# Altium footprint library PcbLib.PcbLib: 27 footprints (part 1 of 2)
Each footprint in its own frame and in the unit in brackets; x right, y up, seen from the top. Pads: shape width x height; smd on the part's side, far side on the other; paste and mask are expansions set on the pad; w line width, h text height; cw(c..) or ccw(c..) is an arc to the next point about the centre after c.
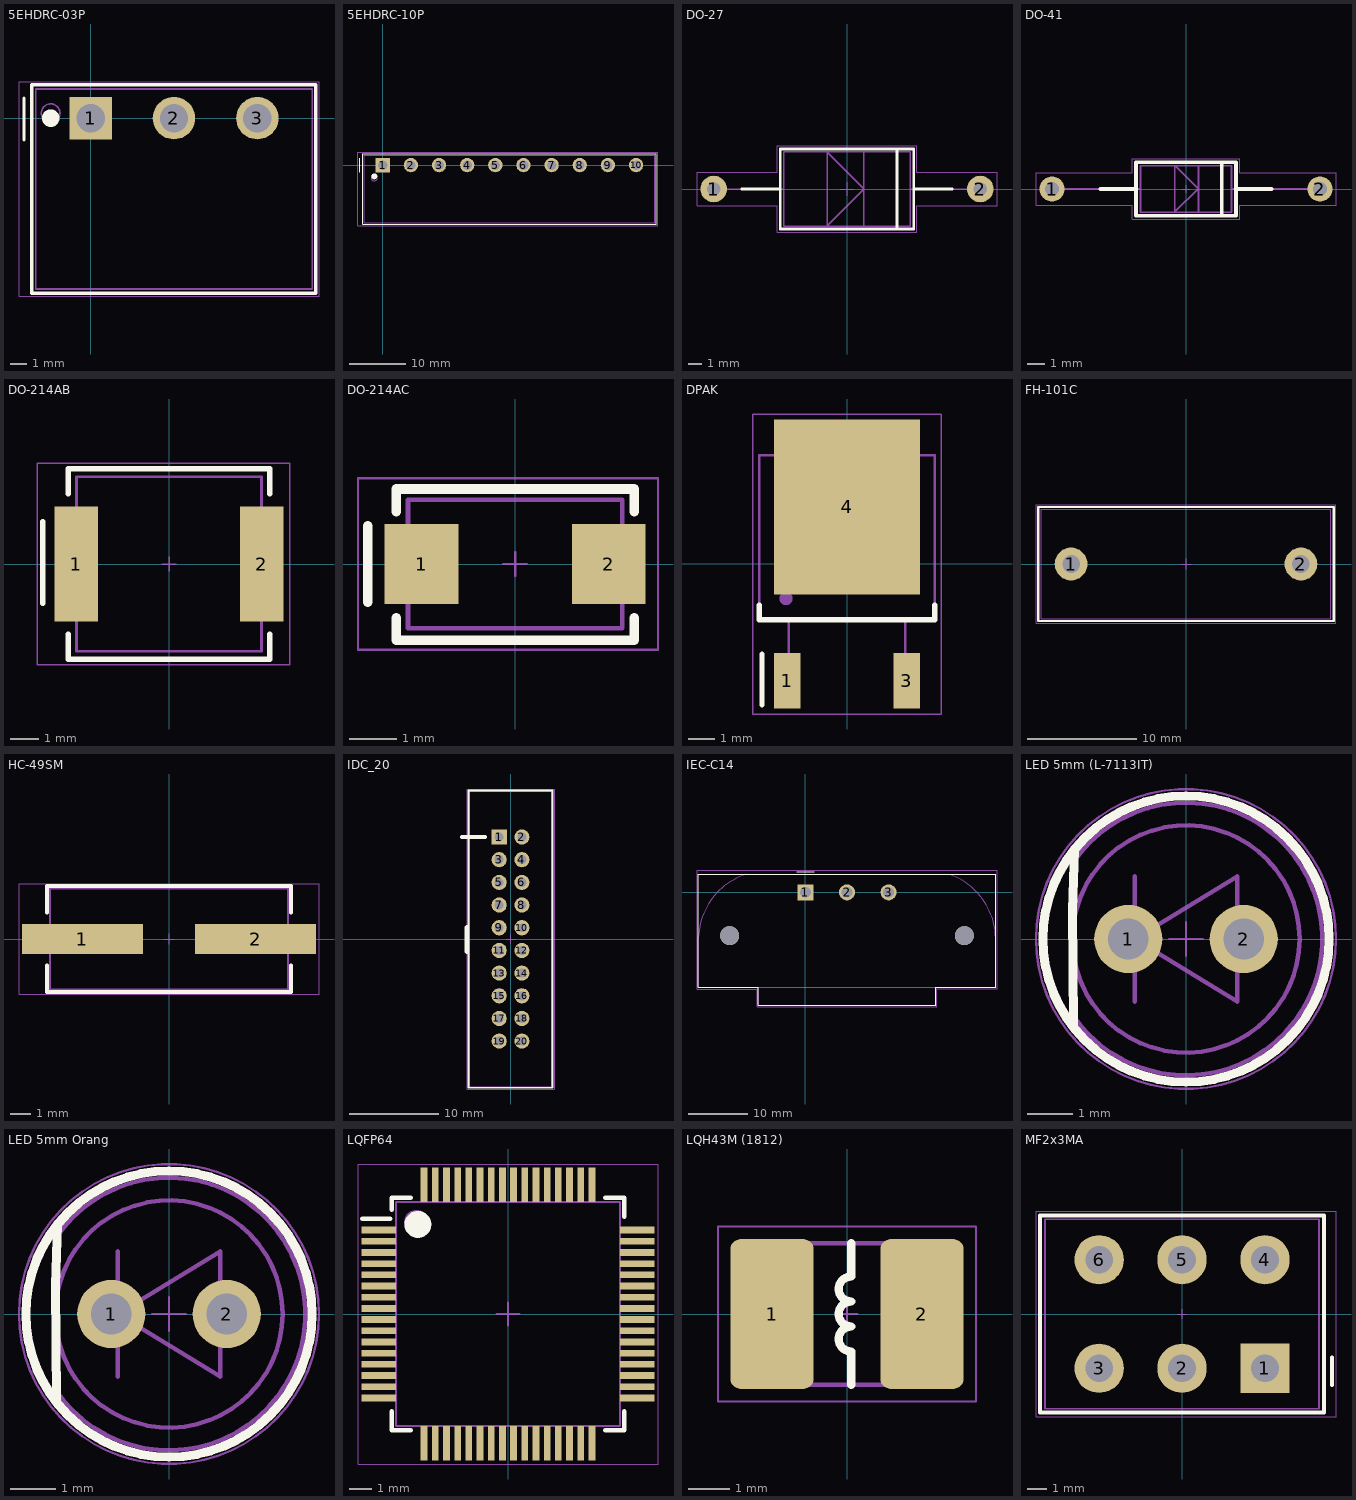
[diagram p0: the footprints below, top view; thin cyan lines are the x and y axes]

## 5EHDRC-03P [mm] "5EHDRC-03P (1x3) 2.54pit 1mm hole [16.6x12.00]"
pads (3):
  rect 2.55x2.55 hole 1.7 unplated: 1(0,0)
  round 2.55 hole 1.7 unplated: 2(5,0) 3(10,0)
Top Overlay:
  circle w0.55: c-2.4,0 r0.25
  lines w0.2: -4,-1.3 -4,1.2 ; -3.525,-10.5 13.5,-10.5 13.5,2 -3.525,2 -3.525,-10.5
Mechanical 13:
  circle w0.1: c-2.4,0.3 r0.559
  lines w0.1: -3.3,-10.25 -3.3,1.75 13.3,1.75 13.3,-10.25 -3.3,-10.25
  text ".Designator" at 3.5,-2.593 h1
Mechanical 15:
  lines w0.05: 4.5,0 5.5,0 ; 5,-0.5 5,0.5 ; -4.3,-10.7 13.7,-10.7 13.7,2.2 -4.3,2.2 -4.3,-10.7
3D body: height 12.47, standoff 0, extent -3.3,-10.25 13.3,1.75

## 5EHDRC-10P [mm] "5EHDRC-10P (1x10) 2.54pit 1mm hole [51,9x12.00]"
pads (10):
  rect 2.55x2.55 hole 1.7 unplated: 1(0,0)
  round 2.55 hole 1.7 unplated: 2(5,0) 3(10,0) 4(15,0) 5(20,0) 6(25,0) 7(30,0) 8(35,0) 9(40,0) 10(45,0)
Top Overlay:
  circle w0.55: c-1.5,-2 r0.25
  lines w0.2: -4.1,-1.3 -4.1,1.2 ; -3.6,-10.5 48.6,-10.5 48.6,2 -3.6,2 -3.6,-10.5
Mechanical 13:
  circle w0.1: c-1.5,-2.25 r0.559
  lines w0.1: -3.3,-10.25 -3.3,1.75 48.3,1.75 48.3,-10.25 -3.3,-10.25
  text ".Designator" at 21,-3.343 h1
Mechanical 15:
  lines w0.05: -4.4,-10.75 -4.4,2.25 48.9,2.25 48.9,-10.75 -4.4,-10.75
3D body: height 12.47, standoff 0, extent -3.3,-10.25 48.3,1.75

## DO-27 [mm] "DO-27 (DO-201AD)"
pads (2):
  round 2 hole 1: 1(-10,0) 2(10,0)
Top Overlay:
  lines w0.2: -7.9,0 -5,0 ; 3.75,-3 3.75,3 ; 5,0 7.9,0 ; -5,-3 -5,3 5,3 5,-3 -5,-3
Mechanical 12:
  text "140.02.0205.00.00" at -2.251,2 h0.8
Mechanical 13:
  lines w0.1: -10,0 -4.75,0 ; 1.25,-2.75 1.25,2.75 ; 4.75,0 10,0 ; -4.75,-2.8 4.75,-2.8 4.75,2.8 -4.75,2.8 -4.75,-2.8 ; -1.5,-2.75 -1.5,2.75 1.2,0.05 1.2,0 1.2,-0.05 -1.5,-2.75
  text ".Designator" at -1.75,-2.093 h1
Mechanical 15:
  lines w0.05: -0.5,0 0.5,0 ; 0,-0.5 0,0.5 ; -11.25,-1.25 -5.25,-1.25 -5.25,-3.25 5.25,-3.25 5.25,-1.25 11.25,-1.25 11.25,1.25 5.25,1.25 5.25,3.25 -5.25,3.25 -5.25,1.25 -11.25,1.25 -11.25,-1.25
3D body: height 6.1, standoff 0.5, extent -4.75,-2.8 4.75,2.8
3D body: height 3.3, standoff -1, extent -10.5,-0.5 -9.5,0.5
3D body: height 3.3, standoff -1, extent 9.5,-0.5 10.5,0.5
3D body: height 3.8, standoff 2.8, extent -10,-0.5 10,0.5

## DO-41 [mm]
pads (2):
  round 1.4 hole 0.8 unplated: 1(-7.5,0) 2(7.5,0)
Top Overlay:
  lines w0.2: -4.8,0 -2.8,0 ; 2,-1.5 2,1.5 ; 2.8,0 4.8,0 ; -2.8,-1.5 -2.8,1.5 2.8,1.5 2.8,-1.5 -2.8,-1.5
Mechanical 12:
  text "140.02.0203.00.00" at -2.101,0.7 h0.8
Mechanical 13:
  lines w0.1: -7.5,0 -2.55,0 ; -0.75,1.3 -0.7,1.3 ; 0.7,-1.3 0.7,1.3 ; 2.55,0 7.5,0 ; -2.55,-1.3 -2.55,1.3 2.55,1.3 2.55,-1.3 -2.55,-1.3 ; -0.625,-1.275 -0.625,1.275 -0.6,1.3 0.675,0.025 -0.625,-1.275
  text ".Designator" at -1.85,-0.993 h1
Mechanical 15:
  lines w0.05: -0.2,0 0.2,0 ; 0,-0.2 0,0.2 ; -8.4,-0.9 -8.4,0.9 -3,0.9 -3,1.7 3,1.7 3,0.9 8.4,0.9 8.4,-0.9 3,-0.9 3,-1.7 -3,-1.7 -3,-0.9 -8.4,-0.9
3D body: height 2.3, standoff -1, extent 7.115,-0.385 7.885,0.385
3D body: height 2.3, standoff -1, extent -7.885,-0.385 -7.115,0.385
3D body: height 3.6, standoff 1, extent -2.55,-1.3 2.55,1.3
3D body: height 2.69, standoff 1.91, extent -7.5,-0.385 7.5,0.385

## DO-214AB [mm] "2-Leads, Body 7,1x6,2mm"
pads (2):
  rect 1.55x4.1 smd: 1(-3.3,0) 2(3.3,0)
Top Overlay:
  lines w0.2: -4.5,-1.4 -4.5,1.5 ; -3.6,-2.5 -3.6,-3.4 3.6,-3.4 3.6,-2.5 ; -3.6,2.5 -3.6,3.4 3.6,3.4 3.6,2.5
Mechanical 13:
  lines w0.1: -3.3,-3.11 3.3,-3.11 3.3,3.11 -3.3,3.11 -3.3,-3.11
  text ".Designator" at -1.85,-1.243 h1
Mechanical 15:
  lines w0.05: -0.25,0 0.25,0 ; 0,-0.25 0,0.25 ; -4.7,-3.6 4.3,-3.6 4.3,3.6 -4.7,3.6 -4.7,-3.6
3D body: height 1.31, standoff 0, extent 2.08,-1.97 3.6,1.97
3D body: height 1.31, standoff 0, extent -3.6,-1.97 -2.08,1.97
3D body: height 2.65, standoff 0.2, extent -3.3,-3.1 3.3,3.1

## DO-214AC [mm] "2-Leads, Body 5x2,7mm"
pads (2):
  rect 1.55x1.67 smd: 1(-1.965,0) 2(1.965,0)
Top Overlay:
  lines w0.2: -3.1,-0.8 -3.1,0.8 ; -2.5,-1.125 -2.5,-1.6 2.5,-1.6 2.5,-1.125 ; -2.5,1.1 -2.5,1.575 2.5,1.575 2.5,1.1
Mechanical 13:
  lines w0.1: -2.25,-1.35 2.25,-1.35 2.25,1.35 -2.25,1.35 -2.25,-1.35
  text ".Designator" at -1.9,-2.343 h1
Mechanical 15:
  lines w0.05: -0.25,0 0.25,0 ; 0,-0.25 0,0.25 ; -3.3,-1.8 3,-1.8 3,1.8 -3.3,1.8 -3.3,-1.8
3D body: height 1.1, standoff 0, extent -2.5,-0.75 -1.5,0.75
3D body: height 1.1, standoff 0, extent 1.5,-0.75 2.5,0.75
3D body: height 2.2, standoff 0.1, extent -2.25,-1.35 2.25,1.35

## DPAK [mm] "DPAK (TO-252)"
pads (3):
  rect 1x2.1 smd: 1(-2.25,-4.4) 3(2.25,-4.4)
  rect 5.5x6.6 smd: 4(0,2.15)
Top Overlay:
  lines w0.2: -3.3,-1.55 -3.3,-2.1 3.3,-2.1 3.3,-1.55 ; -3.2,-5.3 -3.2,-3.4
Mechanical 13:
  circle w0.25: c-2.3,-1.3 r0.125
  lines w0.1: -2.2,-5 -2.2,-2.1 ; 2.2,-5 2.2,-2.1 ; -3.3,-2.1 3.3,-2.1 3.3,4.1 -3.3,4.1 -3.3,-2.1
  text ".Designator" at -2.1,-6.5 h1
Mechanical 15:
  lines w0.05: -3.55,-5.65 3.55,-5.65 3.55,5.65 -3.55,5.65 -3.55,-5.65
  lines w0.1: -0.5,0 0.5,0 ; 0,-0.5 0,0.5
3D body: height 2.4, standoff 0.03, extent -3.3,-2.1 3.3,4.1

## FH-101C [mm] "FH-101C 5x20 fuse holder"
height 14
pads (2):
  round 3 hole 1.6: 1(-10.5,0) 2(10.5,0)
Top Overlay:
  lines w0.2: -13.5,-5.2 13.5,-5.2 13.5,5.2 -13.5,5.2 -13.5,-5.2
Mechanical 13:
  lines w0.1: -13.2,-5 -13.2,5 13.2,5 13.2,-5 -13.2,-5
  text ".Designator" at -1.75,-1.593 h1
Mechanical 15:
  lines w0.05: -13.7,-5.4 13.7,-5.4 13.7,5.4 -13.7,5.4 -13.7,-5.4
  lines w0.1: -0.5,0 0.5,0 ; 0,-0.5 0,0.5
3D body: height 14, standoff 0.1, extent -13.2,-5 13.2,5

## HC-49SM [mm] "SMD Metal-can Type CRYSTAL"
height 4.3
pads (2):
  rect 6x1.5 smd: 1(-4.3,0) 2(4.3,0)
Top Overlay:
  lines w0.2: -6.05,-1.313 -6.05,-2.625 6.05,-2.625 6.05,-1.313 ; -6.05,1.312 -6.05,2.625 6.05,2.625 6.05,1.312
Mechanical 13:
  lines w0.1: -5.9,-2.5 5.9,-2.5 5.9,2.5 -5.9,2.5 -5.9,-2.5
  text ".Designator" at -1.75,-1.75 h1
Mechanical 15:
  lines w0.05: -0.25,0 0.25,0 ; 0,-0.25 0,0.25 ; -7.45,-2.75 7.45,-2.75 7.45,2.75 -7.45,2.75 -7.45,-2.75
3D body: height 0.35, standoff 0.1, extent -6.4,-0.4 6.4,0.4
3D body: height 4.3, standoff 0.6, extent -3.4,-1.9 3.4,1.9
3D body: height 4.3, standoff 0.6, extent -5.3,-1.898 -1.5,1.901
3D body: height 4.3, standoff 0.6, extent 1.5,-1.899 5.3,1.9
3D body: height 0.64, standoff 0.1, extent -5.8,-2.4 5.8,2.4

## IDC_20 [mm] "IDC_20 (2x10) 2.54pit 1mm hole [33.0x9.1]"
height 9
pads (20):
  rect 1.7x1.7 hole 1: 1(-1.27,11.42)
  round 1.7 hole 1: 2(1.27,11.42) 3(-1.27,8.88) 4(1.27,8.88) 5(-1.27,6.34) 6(1.27,6.34) 7(-1.27,3.8) 8(1.27,3.8) 9(-1.27,1.26) 10(1.27,1.26) 11(-1.27,-1.28) 12(1.27,-1.28) 13(-1.27,-3.82) 14(1.27,-3.82) 15(-1.27,-6.36) 16(1.27,-6.36) 17(-1.27,-8.9) 18(1.27,-8.9) 19(-1.27,-11.44) 20(1.27,-11.44)
Top Overlay:
  lines w0.2: -4.695,-16.655 4.705,-16.655 4.705,16.645 -4.695,16.645 -4.695,-16.655
  lines w0.4: -5.47,11.42 -2.845,11.42
  lines w0.6: -4.87,-1.365 -4.87,1.26
Mechanical 13:
  circle w0.1: c-1.27,11.42 r0.5
  lines w0.1: -4.57,11.445 -3.72,11.445 ; -4.595,-16.555 -4.595,16.545 4.605,16.545 4.605,-16.555 -4.595,-16.555
  text ".Designator" at -2.175,-13.525 h1
Mechanical 15:
  lines w0.05: -4.9,-16.8 -4.9,16.8 4.9,16.8 4.9,-16.8 -4.9,-16.8
  lines w0.1: -0.495,0 0.505,0 ; 0,-0.505 0,0.495

## IEC-C14 [mm] "IEC С14"
pads (5):
  rect 2.7x2.7 hole 1.8: 1(0,0)
  round 2.7 hole 1.8: 2(7,0) 3(14,0)
  round 3.2 hole 3.2 unplated: ""(-12.75,-7.3) ""(26.75,-7.3)
Top Overlay:
  lines w0.2: -1.5,3.5 1.5,3.5 ; -18,-16 -7.9,-16 -7.9,-19 21.9,-19 21.9,-16 32,-16 32,3 16.2,3 -2.2,3 -18,3 -18,-16
Mechanical 13:
  lines w0.1: -18,-7.6 -18,-16 -7.9,-16 ; -17.998,-7.539 cw(c-6.481,-7.941) -10.042,3.019 ; -10.1,3 -2.2,3 16.2,3 24.2,3 ; 24.266,2.978 cw(c20.531,-7.87) 32.001,-7.67 ; 32,-7.6 32,-16 21.9,-16 ; -7.9,-16 -7.9,-19 21.9,-19 21.9,-16 ; -7.9,-16 21.9,-16
  text ".Designator" at 5.25,-2.843 h1
Mechanical 15:
  lines w0.05: -18.25,-16.3 -18.25,3.75 32.25,3.75 32.25,-16.25 22.15,-16.25 22.15,-19.25 -8.15,-19.25 -8.15,-16.3 -18.25,-16.3
3D body "52--3DModel-STEP-56544.STEP": height 27.3, standoff -3.5, extent -18.05,-19 32.05,8.8

## LED 5mm (L-7113IT) [mm] "L-7113IT, body 59x356mm"
height 11
pads (2):
  round 1.5 hole 0.9: 1(-1.27,0) 2(1.27,0)
Top Overlay:
  circle w0.2: c0,0 r3.147
  lines w0.2: -2.475,-1.9 -2.5,0.625 -2.451,1.975
Mechanical 13:
  circle w0.1: c0,0 r2.5
  lines w0.1: -2.5,1.664 -2.5,-1.658 ccw(c0,0) -2.496,1.664 ; -1.125,-1.375 -1.125,1.375 ; -1.125,0 1.125,-1.375 1.125,1.375 -1.125,0
  text ".Designator" at -2,-4.093 h1
Mechanical 15:
  circle w0.05: c0,0 r3.3
  lines w0.05: -0.375,0 0.375,0 ; 0,-0.375 0,0.375
3D body: height 26, standoff -1.5, extent -1.52,-0.25 -1.02,0.25
3D body: height 26, standoff -1.5, extent 1.02,-0.25 1.52,0.25
3D body: height 27, standoff 26, extent -2.95,-2.95 2.95,2.95
3D body: height 35.1, standoff 30.1, extent -2.506,-2.5 2.494,2.5
3D body: height 32.7, standoff 26.6, extent -2.5,-2.5 2.5,2.5

## LED 5mm Orang [mm] "GNL-5012ED"
height 11
pads (2):
  round 1.5 hole 0.9: 1(-1.27,0) 2(1.27,0)
Top Overlay:
  circle w0.2: c0,0 r3.147
  lines w0.2: -2.475,-1.9 -2.5,0.625 -2.451,1.975
Mechanical 13:
  circle w0.1: c0,0 r2.5
  lines w0.1: -2.5,1.664 -2.5,-1.658 ccw(c0,0) -2.496,1.664 ; -1.125,-1.375 -1.125,1.375 ; -1.125,0 1.125,-1.375 1.125,1.375 -1.125,0
  text ".Designator" at -2,-4.093 h1
Mechanical 15:
  circle w0.05: c0,0 r3.3
  lines w0.05: -0.375,0 0.375,0 ; 0,-0.375 0,0.375
3D body: height 2, standoff -1.5, extent -1.52,-0.25 -1.02,0.25
3D body: height 2, standoff -1.5, extent 1.02,-0.25 1.52,0.25
3D body: height 3, standoff 2, extent -2.95,-2.95 2.95,2.95
3D body: height 11.6, standoff 6.6, extent -2.494,-2.497 2.494,2.497
3D body: height 9.1, standoff 3, extent -2.5,-2.497 2.5,2.497

## LQFP64 [mm] "TSQFP, 64-Leads, Body 10,00x10,00mm, Pitch 0,50mm, IPC Medium Density"
height 1.6
pads (64):
  rect 1.55x0.3 smd mask+0.05: 1(-5.775,3.75) 2(-5.775,3.25) 3(-5.775,2.75) 4(-5.775,2.25) 5(-5.775,1.75) 6(-5.775,1.25) 7(-5.775,0.75) 8(-5.775,0.25) 9(-5.775,-0.25) 10(-5.775,-0.75) 11(-5.775,-1.25) 12(-5.775,-1.75) 13(-5.775,-2.25) 14(-5.775,-2.75) 15(-5.775,-3.25) 16(-5.775,-3.75) 33(5.775,-3.75) 34(5.775,-3.25) 35(5.775,-2.75) 36(5.775,-2.25) 37(5.775,-1.75) 38(5.775,-1.25) 39(5.775,-0.75) 40(5.775,-0.25) 41(5.775,0.25) 42(5.775,0.75) 43(5.775,1.25) 44(5.775,1.75) 45(5.775,2.25) 46(5.775,2.75) 47(5.775,3.25) 48(5.775,3.75)
  rect 0.3x1.55 smd mask+0.05: 17(-3.75,-5.775) 18(-3.25,-5.775) 19(-2.75,-5.775) 20(-2.25,-5.775) 21(-1.75,-5.775) 22(-1.25,-5.775) 23(-0.75,-5.775) 24(-0.25,-5.775) 25(0.25,-5.775) 26(0.75,-5.775) 27(1.25,-5.775) 28(1.75,-5.775) 29(2.25,-5.775) 30(2.75,-5.775) 31(3.25,-5.775) 32(3.75,-5.775) 49(3.75,5.775) 50(3.25,5.775) 51(2.75,5.775) 52(2.25,5.775) 53(1.75,5.775) 54(1.25,5.775) 55(0.75,5.775) 56(0.25,5.775) 57(-0.25,5.775) 58(-0.75,5.775) 59(-1.25,5.775) 60(-1.75,5.775) 61(-2.25,5.775) 62(-2.75,5.775) 63(-3.25,5.775) 64(-3.75,5.775)
Top Overlay:
  circle w0.6: c-4.025,4 r0.3
  lines w0.2: -6.5,4.25 -5.25,4.25 ; -5.2,-4.35 -5.2,-5.2 -4.35,-5.2 ; -5.2,4.65 -5.2,5.2 -4.35,5.2 ; 4.35,-5.2 5.2,-5.2 5.2,-4.35 ; 4.35,5.2 5.2,5.2 5.2,4.35
Mechanical 13:
  circle w0.1: c-4.1,4.1 r0.5
  lines w0.1: -5,-5 5,-5 5,5 -5,5 -5,-5
  text ".Designator" at -1.75,-1.25 h1
Mechanical 15:
  lines w0.05: -6.7,-6.7 6.7,-6.7 6.7,6.7 -6.7,6.7 -6.7,-6.7
  lines w0.1: -0.5,0 0.5,0 ; 0,-0.5 0,0.5
3D body "TSQFP50P1200X1200X160-64N.step": height 1.95, standoff 0, extent -6,-6 6,6

## LQH43M (1812) [mm] "SMD inductor"
height 3
pads (2):
  rrect25% 2x3.6 smd: 1(-1.8,0) 2(1.8,0)
Top Overlay:
  lines w0.2: 0.1,-1.7 0.1,-0.9 cw(c0.1,-0.6) 0.1,-0.3 cw(c0.1,0) 0.1,0.3 cw(c0.1,0.6) 0.1,0.9 0.1,1.7
Mechanical 13:
  lines w0.1: -2.4,-1.7 -2.4,1.7 2.4,1.7 2.4,-1.7 -2.4,-1.7
  text ".Designator" at -1.75,-2.75 h1
Mechanical 15:
  lines w0.05: -0.25,0 0.25,0 ; 0,-0.25 0,0.25 ; -3.1,-2.1 3.1,-2.1 3.1,2.1 -3.1,2.1 -3.1,-2.1
3D body: height 0.7, standoff 0.1, extent -2.4,-1.7 2.4,1.7
3D body: height 2.8, standoff 2.2, extent -2.5,-1.7 2.3,1.7
3D body: height 2.3, standoff 0.3, extent -1.4,-1.4 1.4,1.4

## MF2x3MA [mm] "Mini-Fit 4,2mm A Male 6 pin"
pads (6):
  rect 2.5x2.5 hole 1.4 unplated: 1(4.2,-2.75)
  round 2.5 hole 1.4 unplated: 2(0,-2.75) 3(-4.2,-2.75) 4(4.2,2.75) 5(0,2.75) 6(-4.2,2.75)
Top Overlay:
  lines w0.2: 7.6,-3.6 7.6,-2.2 ; -7.2,-5 7.2,-5 7.2,5 -7.2,5 -7.2,-5
Mechanical 13:
  lines w0.1: -6.95,-4.8 6.95,-4.8 6.95,4.8 -6.6,4.8 -6.95,4.8 -6.95,-4.8
  text ".Designator" at 1.5,-0.3 h1
Mechanical 15:
  lines w0.05: -0.25,0 0.25,0 ; 0,-0.25 0,0.25 ; -7.4,-5.2 7.8,-5.2 7.8,5.2 -7.4,5.2 -7.4,-5.2
3D body: height 12.9, standoff 0, extent -6.95,-4.8 6.95,4.8